# EAGLE library part NJM2174 (library njr)
The NJM2174 is a low voltage audio line amplifier designed for audio items.
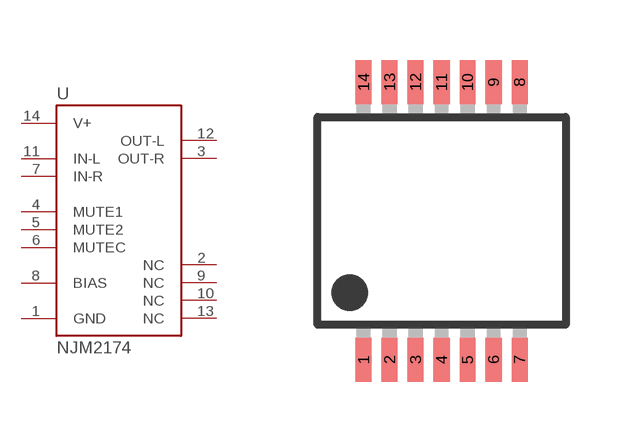
[diagram p0: symbol with the pads of SSOP14; footprint SSOP14]

Designator prefix -

## NJM2174  [SSOP14]
1  GND
2  NC
3  OUT-R
4  MUTE1
5  MUTE2
6  MUTEC
7  IN-R
8  BIAS
9  NC
10  NC
11  IN-L
12  OUT-L
13  NC
14  V+

## Footprint SSOP14 (pad centres in mm)
plastic shrink small outline package; 14 leads; body width 5.3 mm SOT337-1 Source: http://www.nxp.com/documents/data_sheet/74ABT125.pdf
smd 0.4 x 1.1: 1 -1.95,-3.475; 2 -1.3,-3.475; 3 -0.65,-3.475; 4 0,-3.475; 5 0.65,-3.475; 6 1.3,-3.475; 7 1.95,-3.475; 8 1.95,3.475; 9 1.3,3.475; 10 0.65,3.475; 11 0,3.475; 12 -0.65,3.475; 13 -1.3,3.475; 14 -1.95,3.475